# Altium integrated library GRM21BR71H104KA11K.IntLib: 1 symbol
Pins are listed as number, name and electrical type; pins without a type are passive.

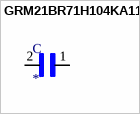
[diagram p0: symbol GRM21BR71H104KA11K]

## GRM21BR71H104KA11K
designator C
SMD Capacitor X7R_EIA_ with Capacitance: 0.10uF Tol. 10%. Rated Voltage: 50Vdc; MF: Murata Electronics; MP: GRM21BR71H104KA11K; Value: *; Availability: Unavailable; Package: 0805 Murata; SnapEDA_Link: https://www.snapeda.com/parts/GRM21BR71H104KA11K/Murata%20Electronics%20North%20America/view-part/2459791/?ref=snap; Price: None
footprint CAPC2012X135N
pins: 1, 2